# Altium schematic symbol library Capasitor.SchLib: 60 symbols
Pins are listed as number, name and electrical type; pins without a type are passive.

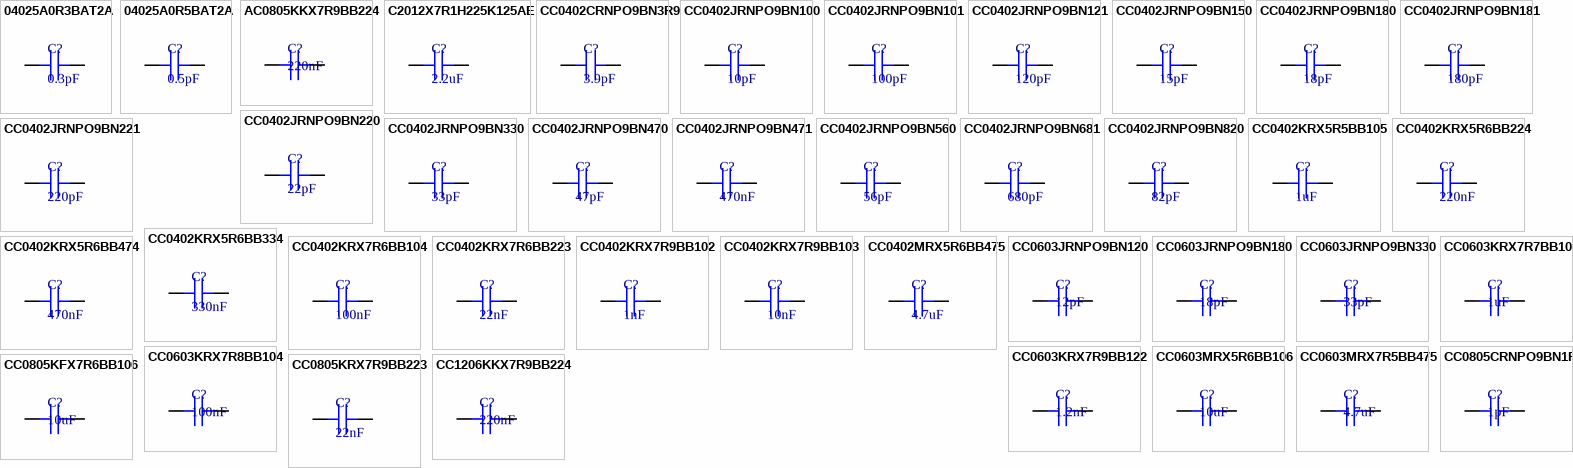
[diagram p0: symbols 04025A0R3BAT2A to CC1206KKX7R9BB224]

## 04025A0R3BAT2A
designator C?, comment 0.3pF
0.3pF, 50V, C0G, 0402; Manufacturer: Kyocera AVX; Manufacturer Part Number: 04025A0R3BAT2A; Value: 0.3; Dielectric Material: Ceramic; Purpose Of Usage: BASIC; Tolerance: 1%; Supplier 1: Digi-Key; RoHS: YES; Category: CAPASITOR; Case/Package: 0402; Case Code (Imperial): 0402; Case Code (Metric): 1005; Min Operating Temperature: -55°C; Max Operating Temperature: 125°C; Voltage Rating: 50V; Dielectric: C0G; Voltage Rating (DC): 50V; Supplier Part Number 1: 04025A0R3BAT2A-ND; Height: 0.5mm; Local Supplier: GENERAL; Mount: SMD; Price 10K: 0.00250; Stock ID: ??; Sub-Category: CERAMIC
footprint C0402 (Chip Capacitor, 2-Leads, Body 1.00x0.50mm, IPC Medium Density)
pins: 1, 2

## 04025A0R5BAT2A
designator C?, comment 0.5pF
0.5pF, 50V, C0G, 0402; Manufacturer: Kyocera AVX; Manufacturer Part Number: 04025A0R5BAT2A; Value: 0.5; Temperature Coefficient: 0ppm/°C; Dielectric Material: Ceramic; Tolerance: 1%; Purpose Of Usage: BASIC; Supplier 1: Digi-Key; RoHS: YES; Category: CAPASITOR; Mount: SMD; Case/Package: 0402; Case Code (Metric): 1005; Case Code (Imperial): 0402; Min Operating Temperature: -55°C; Max Operating Temperature: 125°C; Voltage Rating: 50V; Voltage Rating (DC): 50V; Dielectric: C0G; Height: 0.56mm; Supplier Part Number 1: 478-3656-1-ND; Sub-Category: CERAMIC; Stock ID: ??; Local Supplier: GENERAL; Price 10K: 0.00250
footprint C0402 (Chip Capacitor, 2-Leads, Body 1.00x0.50mm, IPC Medium Density)
pins: 1, 2

## AC0805KKX7R9BB224
designator C?, comment 220nF
220nF, 50V, X7R, 0805; Manufacturer: Yageo; Manufacturer Part Number: AC0805KKX7R9BB224; Value: 220000; Dielectric Material: Ceramic; Tolerance: 10%; Purpose Of Usage: BASIC; Supplier 1: Digi-Key; RoHS: YES; Supplier Part Number 1: 311-3153-1-ND; Category: CAPASITOR; Sub-Category: CERAMIC; Case/Package: 0805; Case Code (Imperial): 0805; Case Code (Metric): 2012; Dielectric: X7R; Max Operating Temperature: 125°C; Min Operating Temperature: -55°C; Mount: SMD; Stock ID: ??; Voltage Rating (DC): 50V; Voltage Rating: 50V; Local Supplier: GENERAL; Price 10K: 0.00250
footprint C0805
pins: 1, 2

## C2012X7R1H225K125AE
designator C?, comment 2.2uF
2.2uF, 50V, X7R, 0805; Manufacturer: TDK; Manufacturer Part Number: C2012X7R1H225K125AE; Value: 2200000; Tolerance: 10%; Dielectric Material: Ceramic; Purpose Of Usage: BASIC; Supplier 1: Digi-Key; Supplier Part Number 1: 445-172487-1-ND; RoHS: YES; Mount: SMD; Case/Package: 0805; Case Code (Metric): 2012; Case Code (Imperial): 0805; Min Operating Temperature: -55°C; Max Operating Temperature: 125°C; Voltage Rating: 50V; Dielectric: X7R; Voltage Rating (DC): 50V; Height: 1.25mm; Category: CAPASITOR; Sub-Category: CERAMIC; Stock ID: ??; Local Supplier: GENERAL; Price 10K: 0.00250
footprint C0805
pins: 1, 2

## CC0402CRNPO9BN3R9
designator C?, comment 3.9pF
3.9pF, 50V, C0G, 0402; Manufacturer: Yageo; Manufacturer Part Number: CC0402CRNPO9BN3R9; Value: 3.9; Dielectric Material: Ceramic; Tolerance: 1%; Purpose Of Usage: BASIC; Supplier 1: Digi-Key; RoHS: YES; Category: CAPASITOR; Mount: SMD; Case/Package: 0402; Case Code (Imperial): 0402; Case Code (Metric): 1005; Min Operating Temperature: -55°C; Max Operating Temperature: 125°C; Dielectric: C0G; Voltage Rating (DC): 50V; Voltage Rating: 50V; Supplier Part Number 1: 311-3325-1-ND; Sub-Category: CERAMIC; Stock ID: ??; Local Supplier: GENERAL; Price 10K: 0.00250
footprint C0402 (Chip Capacitor, 2-Leads, Body 1.00x0.50mm, IPC Medium Density)
pins: 1, 2

## CC0402JRNPO9BN100
designator C?, comment 10pF
10pF, 50V, NP0, 0402; Manufacturer: Yageo; Manufacturer Part Number: CC0402JRNPO9BN100; Dielectric Material: Ceramic; Value: 10; Tolerance: 5%; Dielectric: C0G; Temperature Coefficient: 30ppm/°C; Purpose Of Usage: BASIC; Supplier 1: Digi-Key; RoHS: YES; Category: CAPASITOR; Case/Package: 0402; Case Code (Metric): 1005; Case Code (Imperial): 0402; Min Operating Temperature: -55°C; Max Operating Temperature: 125°C; Voltage Rating: 50V; Voltage Rating (DC): 50V; Height: 0.5mm; Supplier Part Number 1: 311-1014-2-ND; Mount: SMD; Stock ID: ??; Sub-Category: CERAMIC; Local Supplier: GENERAL; Price 10K: 0.00250
footprint C0402 (Chip Capacitor, 2-Leads, Body 1.00x0.50mm, IPC Medium Density)
pins: 1, 2

## CC0402JRNPO9BN101
designator C?, comment 100pF
100pF, 50V, NP0, 0402; Manufacturer: Yageo; Manufacturer Part Number: CC0402JRNPO9BN101; Dielectric Material: Ceramic; Value: 100; Tolerance: 5%; Dielectric: C0G; Temperature Coefficient: 30ppm/°C; Purpose Of Usage: BASIC; Supplier 1: Digi-Key; RoHS: YES; Category: CAPASITOR; Case/Package: 0402; Case Code (Imperial): 0402; Case Code (Metric): 1005; Min Operating Temperature: -55°C; Max Operating Temperature: 125°C; Voltage Rating: 50V; Voltage Rating (DC): 50V; Height: 0.5mm; Supplier Part Number 1: 311-1024-2-ND; Sub-Category: CERAMIC; Mount: SMD; Local Supplier: GENERAL; Price 10K: 0.00250; Stock ID: ??
footprint C0402 (Chip Capacitor, 2-Leads, Body 1.00x0.50mm, IPC Medium Density)
pins: 1, 2

## CC0402JRNPO9BN121
designator C?, comment 120pF
120pF, 50V, NP0, 0402; Manufacturer: Yageo; Manufacturer Part Number: CC0402JRNPO9BN121; Tolerance: 5%; Value: 120; Dielectric: C0G; Dielectric Material: Ceramic; Purpose Of Usage: BASIC; Supplier 1: Digi-Key; RoHS: YES; Category: CAPASITOR; Mount: SMD; Case/Package: 0402; Case Code (Imperial): 0402; Case Code (Metric): 1005; Min Operating Temperature: -55°C; Max Operating Temperature: 125°C; Voltage Rating: 50V; Voltage Rating (DC): 50V; Height: 0.5mm; Supplier Part Number 1: 311-3337-1-ND; Sub-Category: CERAMIC; Stock ID: ??; Local Supplier: GENERAL; Price 10K: 0.00250
footprint C0402 (Chip Capacitor, 2-Leads, Body 1.00x0.50mm, IPC Medium Density)
pins: 1, 2

## CC0402JRNPO9BN150
designator C?, comment 15pF
15pF, 50V, NP0, 0402; Manufacturer: Yageo; Manufacturer Part Number: CC0402JRNPO9BN150; Dielectric Material: Ceramic; Value: 15; Tolerance: 5%; Dielectric: C0G; Purpose Of Usage: BASIC; Supplier 1: Digi-Key; RoHS: YES; Category: CAPASITOR; Mount: SMD; Case/Package: 0402; Case Code (Metric): 1005; Case Code (Imperial): 0402; Min Operating Temperature: -55°C; Max Operating Temperature: 125°C; Voltage Rating: 50V; Voltage Rating (DC): 50V; Height: 0.5mm; Supplier Part Number 1: 311-1017-1-ND; Sub-Category: CERAMIC; Stock ID: ??; Local Supplier: GENERAL; Price 10K: 0.00250
footprint C0402 (Chip Capacitor, 2-Leads, Body 1.00x0.50mm, IPC Medium Density)
pins: 1, 2

## CC0402JRNPO9BN180
designator C?, comment 18pF
18pF, 50V, C0G, 0402; Manufacturer: Yageo; Manufacturer Part Number: CC0402JRNPO9BN180; Value: 18; Tolerance: 5%; Temperature Coefficient: 30ppm/°C; Dielectric Material: Ceramic; Purpose Of Usage: BASIC; Supplier 1: Digi-Key; RoHS: YES; Category: CAPASITOR; Mount: SMD; Case/Package: 0402; Case Code (Metric): 1005; Case Code (Imperial): 0402; Min Operating Temperature: -55°C; Max Operating Temperature: 125°C; Voltage Rating: 50V; Voltage Rating (DC): 50V; Dielectric: C0G; Height: 0.5mm; Supplier Part Number 1: 311-1415-1-ND; Sub-Category: CERAMIC; Stock ID: ??; Local Supplier: GENERAL; Price 10K: 0.00250
footprint C0402 (Chip Capacitor, 2-Leads, Body 1.00x0.50mm, IPC Medium Density)
pins: 1, 2

## CC0402JRNPO9BN181
designator C?, comment 180pF
Cap Ceramic 180pF 50V C0G 5% SMD 0402 125C T/R; Manufacturer: Yageo; Manufacturer Part Number: CC0402JRNPO9BN181; Value: 180; Purpose Of Usage: BASIC; Supplier 1: Digi-Key; RoHS: YES; Category: CAPASITOR; Case/Package: 0402; Case Code (Imperial): 0402; Case Code (Metric): 1005; Min Operating Temperature: -55°C; Max Operating Temperature: 125°C; Voltage Rating: 50V; Voltage Rating (DC): 50V; Tolerance: 5%; Dielectric: C0G; Supplier Part Number 1: 311-1663-2-ND; Dielectric Material: Ceramic; Height: 0.5mm; Sub-Category: CERAMIC; Local Supplier: GENERAL; Price 10K: 0.00250; Mount: SMD; Stock ID: ??
footprint C0402 (Chip Capacitor, 2-Leads, Body 1.00x0.50mm, IPC Medium Density)
pins: 1, 2

## CC0402JRNPO9BN220
designator C?, comment 22pF
22pF, 50V, NP0, 0402; Manufacturer: Yageo; Manufacturer Part Number: CC0402JRNPO9BN220; Dielectric Material: Ceramic; Value: 22; Tolerance: 5%; Dielectric: C0G; Temperature Coefficient: 30ppm/°C; Purpose Of Usage: BASIC; Supplier 1: Digi-Key; RoHS: YES; Category: CAPASITOR; Case/Package: 0402; Case Code (Metric): 1005; Case Code (Imperial): 0402; Min Operating Temperature: -55°C; Max Operating Temperature: 125°C; Voltage Rating: 50V; Voltage Rating (DC): 50V; Height: 0.5mm; Supplier Part Number 1: 311-1018-2-ND; Mount: SMD; Sub-Category: CERAMIC; Stock ID: ??; Local Supplier: GENERAL; Price 10K: 0.00250
footprint C0402 (Chip Capacitor, 2-Leads, Body 1.00x0.50mm, IPC Medium Density)
pins: 1, 2

## CC0402JRNPO9BN221
designator C?, comment 220pF
220pF, 50V, NP0, 0402; Manufacturer: Yageo; Manufacturer Part Number: CC0402JRNPO9BN221; Dielectric Material: Ceramic; Value: 220; Tolerance: 10%; Dielectric: C0G; Temperature Coefficient: 30ppm/°C; Purpose Of Usage: BASIC; Supplier 1: Digi-Key; RoHS: YES; Category: CAPASITOR; Mount: SMD; Case/Package: 0402; Case Code (Metric): 1005; Case Code (Imperial): 0402; Min Operating Temperature: -55°C; Max Operating Temperature: 125°C; Voltage Rating: 50V; Height: 0.5mm; Supplier Part Number 1: 311-1416-1-ND; Sub-Category: CERAMIC; Stock ID: ??; Voltage Rating (DC): 50V; Local Supplier: GENERAL; Price 10K: 0.00250
footprint C0402 (Chip Capacitor, 2-Leads, Body 1.00x0.50mm, IPC Medium Density)
pins: 1, 2

## CC0402JRNPO9BN330
designator C?, comment 33pF
33pF, 50V, NP0, 0402; Manufacturer: Yageo; Manufacturer Part Number: CC0402JRNPO9BN330; Dielectric Material: Ceramic; Value: 33; Tolerance: 5%; Dielectric: C0G; Purpose Of Usage: BASIC; Supplier 1: Digi-Key; RoHS: YES; Category: CAPASITOR; Mount: SMD; Case/Package: 0402; Case Code (Imperial): 0402; Case Code (Metric): 1005; Min Operating Temperature: -55°C; Max Operating Temperature: 125°C; Voltage Rating: 50V; Voltage Rating (DC): 50V; Height: 0.5mm; Supplier Part Number 1: 311-1020-1-ND; Sub-Category: CERAMIC; Stock ID: ??; Local Supplier: GENERAL; Price 10K: 0.00250
footprint C0402 (Chip Capacitor, 2-Leads, Body 1.00x0.50mm, IPC Medium Density)
pins: 1, 2

## CC0402JRNPO9BN470
designator C?, comment 47pF
47pF, 50V, NP0, 0402; Manufacturer: Yageo; Manufacturer Part Number: CC0402JRNPO9BN470; Dielectric Material: Ceramic; Value: 47; Tolerance: 5%; Dielectric: C0G; Purpose Of Usage: BASIC; Supplier 1: Digi-Key; RoHS: YES; Category: CAPASITOR; Case/Package: 0402; Case Code (Metric): 1005; Case Code (Imperial): 0402; Min Operating Temperature: -55°C; Max Operating Temperature: 125°C; Voltage Rating: 50V; Voltage Rating (DC): 50V; Height: 0.5mm; Supplier Part Number 1: 311-1021-2-ND; Mount: SMD; Sub-Category: CERAMIC; Local Supplier: GENERAL; Price 10K: 0.00250; Stock ID: ??
footprint C0402 (Chip Capacitor, 2-Leads, Body 1.00x0.50mm, IPC Medium Density)
pins: 1, 2

## CC0402JRNPO9BN471
designator C?, comment 470nF
470pF, 50V, NP0, 0402; Manufacturer: Yageo; Manufacturer Part Number: CC0402JRNPO9BN471; Tolerance: 5%; Value: 470; Dielectric: C0G; Dielectric Material: Ceramic; Purpose Of Usage: BASIC; Supplier 1: Digi-Key; RoHS: YES; Category: CAPASITOR; Case/Package: 0402; Case Code (Imperial): 0402; Case Code (Metric): 1005; Min Operating Temperature: -55°C; Max Operating Temperature: 125°C; Voltage Rating (DC): 50V; Voltage Rating: 50V; Supplier Part Number 1: 311-1671-2-ND; Height: 0.5mm; Local Supplier: GENERAL; Mount: SMD; Price 10K: 0.00250; Stock ID: ??; Sub-Category: CERAMIC
footprint C0402 (Chip Capacitor, 2-Leads, Body 1.00x0.50mm, IPC Medium Density)
pins: 1, 2

## CC0402JRNPO9BN560
designator C?, comment 56pF
56pF ,50V ,NP0 ,0402; Manufacturer: Yageo; Manufacturer Part Number: CC0402JRNPO9BN560; Value: 56; Tolerance: 5%; Dielectric: C0G; Dielectric Material: Ceramic; Purpose Of Usage: BASIC; Supplier 1: Digi-Key; RoHS: YES; Category: CAPASITOR; Mount: SMD; Case/Package: 0402; Case Code (Metric): 1005; Case Code (Imperial): 0402; Min Operating Temperature: -55°C; Max Operating Temperature: 125°C; Voltage Rating: 50V; Voltage Rating (DC): 50V; Height: 0.5mm; Supplier Part Number 1: 311-1022-1-ND; Sub-Category: CERAMIC; Stock ID: ??; Local Supplier: GENERAL; Price 10K: 0.00250
footprint C0402 (Chip Capacitor, 2-Leads, Body 1.00x0.50mm, IPC Medium Density)
pins: 1, 2

## CC0402JRNPO9BN681
designator C?, comment 680pF
680pF, 50V, C0G/NP0, 0402; Manufacturer: Yageo; Manufacturer Part Number: CC0402JRNPO9BN681; Value: 680; Tolerance: 5%; Dielectric: C0G; Dielectric Material: Ceramic; Purpose Of Usage: BASIC; Supplier 1: Digi-Key; RoHS: YES; Category: CAPASITOR; Case/Package: 0402; Case Code (Metric): 1005; Case Code (Imperial): 0402; Min Operating Temperature: -55°C; Max Operating Temperature: 125°C; Voltage Rating: 50V; Voltage Rating (DC): 50V; Supplier Part Number 1: 311-1675-2-ND; Height: 0.5mm; Mount: SMD; Sub-Category: CERAMIC; Local Supplier: GENERAL; Price 10K: 0.00250; Stock ID: ??
footprint C0402 (Chip Capacitor, 2-Leads, Body 1.00x0.50mm, IPC Medium Density)
pins: 1, 2

## CC0402JRNPO9BN820
designator C?, comment 82pF
82pF, 50V, C0G, 0402; Manufacturer: Yageo; Manufacturer Part Number: CC0402JRNPO9BN820; Value: 82; Tolerance: 5%; Dielectric Material: Ceramic; Purpose Of Usage: BASIC; Supplier 1: Digi-Key; RoHS: YES; Category: CAPASITOR; Mount: SMD; Case/Package: 0402; Case Code (Metric): 1005; Case Code (Imperial): 0402; Min Operating Temperature: -55°C; Max Operating Temperature: 125°C; Voltage Rating: 50V; Voltage Rating (DC): 50V; Dielectric: C0G; Height: 0.5mm; Supplier Part Number 1: 311-1023-1-ND; Sub-Category: CERAMIC; Stock ID: ??; Local Supplier: GENERAL; Price 10K: 0.00250
footprint C0402 (Chip Capacitor, 2-Leads, Body 1.00x0.50mm, IPC Medium Density)
pins: 1, 2

## CC0402KRX5R5BB105
designator C?, comment 1uF
1uF, 6.3V, X5R, 0402; Manufacturer: Yageo; Manufacturer Part Number: CC0402KRX5R5BB105; Dielectric Material: Ceramic; Value: 1000000; Tolerance: 10%; Purpose Of Usage: BASIC; Supplier 1: Digi-Key; RoHS: YES; Category: CAPASITOR; Mount: SMD; Case/Package: 0402; Case Code (Metric): 1005; Case Code (Imperial): 0402; Min Operating Temperature: -55°C; Max Operating Temperature: 85°C; Voltage Rating: 6.3V; Voltage Rating (DC): 6.3V; Dielectric: X5R; Height: 0.5mm; Supplier Part Number 1: 311-1438-1-ND; Sub-Category: CERAMIC; Stock ID: ??; Local Supplier: GENERAL; Price 10K: 0.00250
footprint C0402 (Chip Capacitor, 2-Leads, Body 1.00x0.50mm, IPC Medium Density)
pins: 1, 2

## CC0402KRX5R6BB224
designator C?, comment 220nF
220nF, 10V, X5R, 0402; Manufacturer: Yageo; Manufacturer Part Number: CC0402KRX5R6BB224; Dielectric Material: Ceramic; Value: 220000; Tolerance: 10%; Purpose Of Usage: BASIC; Supplier 1: Digi-Key; RoHS: YES; Category: CAPASITOR; Mount: SMD; Case/Package: 0402; Case Code (Metric): 1005; Case Code (Imperial): 0402; Min Operating Temperature: -55°C; Max Operating Temperature: 85°C; Voltage Rating: 10V; Voltage Rating (DC): 10V; Dielectric: X5R; Height: 0.5mm; Supplier Part Number 1: 311-1421-1-ND; Sub-Category: CERAMIC; Stock ID: ??; Local Supplier: GENERAL; Price 10K: 0.00250
footprint C0402 (Chip Capacitor, 2-Leads, Body 1.00x0.50mm, IPC Medium Density)
pins: 1, 2

## CC0402KRX5R6BB334
designator C?, comment 330nF
330nF, 10V, X5R, 0402; Manufacturer: Yageo; Manufacturer Part Number: CC0402KRX5R6BB334; Tolerance: 10%; Value: 330000; Dielectric Material: Ceramic; Purpose Of Usage: BASIC; Supplier 1: Digi-Key; RoHS: YES; Category: CAPASITOR; Mount: SMD; Case/Package: 0402; Case Code (Metric): 1005; Case Code (Imperial): 0402; Min Operating Temperature: -55°C; Max Operating Temperature: 85°C; Voltage Rating: 10V; Dielectric: X5R; Voltage Rating (DC): 10V; Supplier Part Number 1: 311-1687-1-ND; Sub-Category: CERAMIC; Stock ID: ??; Local Supplier: GENERAL; Price 10K: 0.00250
footprint C0402 (Chip Capacitor, 2-Leads, Body 1.00x0.50mm, IPC Medium Density)
pins: 1, 2

## CC0402KRX5R6BB474
designator C?, comment 470nF
470nF, 10V, X5R, 0402; Manufacturer: Yageo; Manufacturer Part Number: CC0402KRX5R6BB474; Tolerance: 10%; Value: 470000; Dielectric Material: Ceramic; Purpose Of Usage: BASIC; Supplier 1: Digi-Key; RoHS: YES; Category: CAPASITOR; Mount: SMD; Case/Package: 0402; Case Code (Imperial): 0402; Case Code (Metric): 1005; Min Operating Temperature: -55°C; Max Operating Temperature: 85°C; Voltage Rating (DC): 10V; Voltage Rating: 10V; Dielectric: X5R; Height: 0.5mm; Supplier Part Number 1: 311-1689-1-ND; Sub-Category: CERAMIC; Stock ID: ??; Local Supplier: GENERAL; Price 10K: 0.00250
footprint C0402 (Chip Capacitor, 2-Leads, Body 1.00x0.50mm, IPC Medium Density)
pins: 1, 2

## CC0402KRX7R6BB104
designator C?, comment 100nF
100nF ,10V ,X7R ,0402; Manufacturer: Yageo; Manufacturer Part Number: CC0402KRX7R6BB104; Value: 100000; Tolerance: 10%; Dielectric Material: Ceramic; Purpose Of Usage: BASIC; Supplier 1: Digi-Key; RoHS: YES; Category: CAPASITOR; Mount: SMD; Case/Package: 0402; Case Code (Imperial): 0402; Case Code (Metric): 1005; Min Operating Temperature: -55°C; Max Operating Temperature: 125°C; Voltage Rating: 10V; Voltage Rating (DC): 10V; Dielectric: X7R; Height: 0.5mm; Supplier Part Number 1: 311-1345-1-ND; Sub-Category: CERAMIC; Stock ID: ??; Local Supplier: GENERAL; Price 10K: 0.00250
footprint C0402 (Chip Capacitor, 2-Leads, Body 1.00x0.50mm, IPC Medium Density)
pins: 1, 2

## CC0402KRX7R6BB223
designator C?, comment 22nF
22nF, 10V, X7R, 0402; Manufacturer: Yageo; Manufacturer Part Number: CC0402KRX7R6BB223; Value: 22; Tolerance: 10%; Dielectric Material: Ceramic; Purpose Of Usage: BASIC; Supplier 1: Digi-Key; RoHS: Yes; Category: CAPASITOR; Case/Package: 0402; Case Code (Imperial): 0402; Case Code (Metric): 1005; Min Operating Temperature: -55°C; Max Operating Temperature: 125°C; Voltage Rating (DC): 10V; Dielectric: X7R; Voltage Rating: 10V; Supplier Part Number 1: 311-3793-2-ND; Height: 0.5mm; Local Supplier: GENERAL; Price 10K: 0.00250; Sub-Category: CERAMIC; Stock ID: ??
footprint C0402 (Chip Capacitor, 2-Leads, Body 1.00x0.50mm, IPC Medium Density)
pins: 1, 2

## CC0402KRX7R9BB102
designator C?, comment 1nF
1nF, 50V, X7R, 0402; Manufacturer: Yageo; Manufacturer Part Number: CC0402KRX7R9BB102; Dielectric Material: Ceramic; Value: 1000; Tolerance: 10%; Purpose Of Usage: BASIC; Supplier 1: Digi-Key; RoHS: YES; Category: CAPASITOR; Mount: SMD; Case/Package: 0402; Case Code (Metric): 1005; Case Code (Imperial): 0402; Min Operating Temperature: -55°C; Max Operating Temperature: 125°C; Voltage Rating: 50V; Supplier Part Number 1: 311-1036-1-ND; Sub-Category: CERAMIC; Dielectric: X7R; Stock ID: ??; Voltage Rating (DC): 50V; Local Supplier: GENERAL; Price 10K: 0.00250
footprint C0402 (Chip Capacitor, 2-Leads, Body 1.00x0.50mm, IPC Medium Density)
pins: 1, 2

## CC0402KRX7R9BB103
designator C?, comment 10nF
10nF, 50V, X7R, 0402; Manufacturer: Yageo; Manufacturer Part Number: CC0402KRX7R9BB103; Tolerance: 10%; Value: 10000; Dielectric Material: Ceramic; Purpose Of Usage: BASIC; Supplier 1: Digi-Key; RoHS: YES; Category: CAPASITOR; Mount: SMD; Case/Package: 0402; Case Code (Imperial): 0402; Case Code (Metric): 1005; Min Operating Temperature: -55°C; Max Operating Temperature: 125°C; Voltage Rating: 50V; Voltage Rating (DC): 50V; Dielectric: X7R; Height: 0.5mm; Supplier Part Number 1: 311-1349-1-ND; Sub-Category: CERAMIC; Stock ID: ??; Local Supplier: GENERAL; Price 10K: 0.00250
footprint C0402 (Chip Capacitor, 2-Leads, Body 1.00x0.50mm, IPC Medium Density)
pins: 1, 2

## CC0402MRX5R6BB475
designator C?, comment 4.7uF
4.7uF, 10V, X5R, 0402; Manufacturer: Yageo; Manufacturer Part Number: CC0402MRX5R6BB475; Value: 4700000; Tolerance: 20%; Dielectric Material: Ceramic; Purpose Of Usage: BASIC; Supplier 1: Digi-Key; RoHS: YES; Category: CAPASITOR; Mount: SMD; Case/Package: 0402; Case Code (Metric): 1005; Case Code (Imperial): 0402; Min Operating Temperature: -55°C; Max Operating Temperature: 85°C; Voltage Rating: 10V; Dielectric: X5R; Voltage Rating (DC): 10V; Height: 0.5mm; Supplier Part Number 1: 311-1734-1-ND; Sub-Category: CERAMIC; Stock ID: ??; Local Supplier: GENERAL; Price 10K: 0.00250
footprint C0402 (Chip Capacitor, 2-Leads, Body 1.00x0.50mm, IPC Medium Density)
pins: 1, 2

## CC0603JRNPO9BN120
designator C?, comment 12pF
12pF ,50V ,C0G ,0603; Manufacturer: Yageo; Manufacturer Part Number: CC0603JRNPO9BN120; Dielectric Material: Ceramic; Value: 12; Tolerance: 5%; Purpose Of Usage: BASIC; Supplier 1: Digi-Key; Supplier Part Number 1: 311-1059-1-ND; RoHS: YES; Mount: SMD; Case/Package: 0603; Case Code (Metric): 1608; Case Code (Imperial): 0603; Min Operating Temperature: -55°C; Max Operating Temperature: 125°C; Voltage Rating (DC): 50V; Dielectric: C0G; Voltage Rating: 50V; Height: 0.8mm; Category: CAPASITOR; Sub-Category: CERAMIC; Stock ID: ??; Local Supplier: GENERAL; Price 10K: 0.00250
footprint C0603
pins: 1, 2

## CC0603JRNPO9BN180
designator C?, comment 18pF
18pF ,50V ,C0G/ NP0 ,0603; Manufacturer: Yageo; Manufacturer Part Number: CC0603JRNPO9BN180; Value: 18; Tolerance: 5%; Dielectric: C0G; Temperature Coefficient: 30ppm/°C; Dielectric Material: Ceramic; Purpose Of Usage: BASIC; Supplier 1: Digi-Key; Supplier Part Number 1: 311-1061-1-ND; RoHS: YES; Mount: SMD; Case/Package: 0603; Case Code (Metric): 1608; Case Code (Imperial): 0603; Min Operating Temperature: -55°C; Max Operating Temperature: 125°C; Voltage Rating: 50V; Voltage Rating (DC): 50V; Height: 0.8mm; Category: CAPASITOR; Sub-Category: CERAMIC; Stock ID: ??; Local Supplier: GENERAL; Price 10K: 0.00250
footprint C0603
pins: 1, 2

## CC0603JRNPO9BN330
designator C?, comment 33pF
33pF ,50V ,NP0 ,0603; Manufacturer: Yageo; Manufacturer Part Number: CC0603JRNPO9BN330; Dielectric Material: Ceramic; Value: 33; Tolerance: 5%; Dielectric: C0G; Temperature Coefficient: 30ppm/°C; Purpose Of Usage: BASIC; Supplier 1: Digi-Key; Supplier Part Number 1: 311-1064-1-ND; RoHS: YES; Mount: SMD; Case/Package: 0603; Case Code (Metric): 1608; Case Code (Imperial): 0603; Min Operating Temperature: -55°C; Max Operating Temperature: 125°C; Voltage Rating: 50V; Voltage Rating (DC): 50V; Height: 0.8mm; Category: CAPASITOR; Sub-Category: CERAMIC; Stock ID: ??; Local Supplier: GENERAL; Price 10K: 0.00250
footprint C0603
pins: 1, 2

## CC0603KRX7R7BB105
designator C?, comment 1uF
1uF, 6V, X7R, 0603; Manufacturer: Yageo; Manufacturer Part Number: CC0603KRX7R7BB105; Value: 1000000; Tolerance: 10%; Voltage Rating: 16V; Dielectric Material: Ceramic; Purpose Of Usage: BASIC; Supplier 1: Digi-Key; Supplier Part Number 1: 311-1446-1-ND; RoHS: YES; Mount: SMD; Case/Package: 0603; Case Code (Metric): 1608; Case Code (Imperial): 0603; Min Operating Temperature: -55°C; Max Operating Temperature: 125°C; Voltage Rating (DC): 16V; Dielectric: X7R; Height: 0.8mm; Sub-Category: CERAMIC; Category: CAPASITOR; Stock ID: ??; Local Supplier: GENERAL; Price 10K: 0.00250
footprint C0603
pins: 1, 2

## CC0603KRX7R8BB104
designator C?, comment 100nF
100nF, 25V, X7R, 0603; Manufacturer: Yageo; Manufacturer Part Number: CC0603KRX7R8BB104; Value: 100000; Tolerance: 10%; Dielectric Material: Ceramic; Purpose Of Usage: BASIC; Supplier 1: Digi-Key; Supplier Part Number 1: 311-1341-1-ND; RoHS: YES; Mount: SMD; Case/Package: 0603; Case Code (Imperial): 0603; Case Code (Metric): 1608; Min Operating Temperature: -55°C; Max Operating Temperature: 125°C; Voltage Rating: 25V; Voltage Rating (DC): 25V; Dielectric: X7R; Height: 0.8mm; Category: CAPASITOR; Sub-Category: CERAMIC; Stock ID: ??; Local Supplier: GENERAL; Price 10K: 0.00250
footprint C0603
pins: 1, 2

## CC0603KRX7R9BB122
designator C?, comment 1.2nF
1.2nF, 50V, X7R, 0603; Manufacturer: Yageo; Manufacturer Part Number: CC0603KRX7R9BB122; Dielectric Material: Ceramic; Tolerance: 10%; Value: 1200; Purpose Of Usage: BASIC; Supplier 1: Digi-Key; Supplier Part Number 1: 311-1806-1-ND; RoHS: YES; Mount: SMD; Case/Package: 0603; Case Code (Metric): 1608; Case Code (Imperial): 0603; Min Operating Temperature: -55°C; Max Operating Temperature: 125°C; Voltage Rating: 50V; Voltage Rating (DC): 50V; Dielectric: X7R; Height: 0.8mm; Category: CAPASITOR; Sub-Category: CERAMIC; Stock ID: ??; Local Supplier: GENERAL; Price 10K: 0.00250
footprint C0603
pins: 1, 2

## CC0603MRX5R6BB106
designator C?, comment 10uF
10uF ,10V ,X5R ,0603; Manufacturer: Yageo; Manufacturer Part Number: CC0603MRX5R6BB106; Tolerance: 20%; Value: 10000000; Dielectric Material: Ceramic; Purpose Of Usage: BASIC; Supplier 1: Digi-Key; Supplier Part Number 1: 311-1817-1-ND; RoHS: YES; Mount: SMD; Case/Package: 0603; Case Code (Imperial): 0603; Case Code (Metric): 1608; Min Operating Temperature: -55°C; Max Operating Temperature: 85°C; Voltage Rating: 10V; Dielectric: X5R; Voltage Rating (DC): 10V; Category: CAPASITOR; Sub-Category: CERAMIC; Stock ID: ??; Local Supplier: GENERAL; Price 10K: 0.00250
footprint C0603
pins: 1, 2

## CC0603MRX7R5BB475
designator C?, comment 4.7uF
4.7uF, 6.3V, X7R, 0603; Manufacturer: Yageo; Manufacturer Part Number: CC0603MRX7R5BB475; Value: 4700000; Tolerance: 20%; Dielectric Material: Ceramic; Purpose Of Usage: BASIC; Supplier 1: Digi-Key; Supplier Part Number 1: 311-3496-6-ND; RoHS: YES; Mount: SMD; Case/Package: 0603; Case Code (Imperial): 0603; Case Code (Metric): 1608; Min Operating Temperature: -55°C; Max Operating Temperature: 125°C; Voltage Rating: 6.3V; Category: CAPASITOR; Sub-Category: CERAMIC; Dielectric: X7R; Stock ID: ??; Voltage Rating (DC): 6.3V; Local Supplier: GENERAL; Price 10K: 0.00250
footprint C0603
pins: 1, 2

## CC0805CRNPO9BN1R0
designator C?, comment 1pF
1pF, 50V, C0G, 0805; Manufacturer: Yageo; Manufacturer Part Number: CC0805CRNPO9BN1R0; Value: 1; Tolerance: 25%; Dielectric Material: Ceramic; Purpose Of Usage: BASIC; Supplier 1: Digi-Key; RoHS: YES; Mount: SMD; Case/Package: 0805; Case Code (Metric): 2012; Case Code (Imperial): 0805; Min Operating Temperature: -55°C; Max Operating Temperature: 125°C; Voltage Rating: 50V; Voltage Rating (DC): 50V; Dielectric: C0G; Height: 0.6mm; Supplier Part Number 1: 311-1089-1-ND; Category: CAPASITOR; Sub-Category: CERAMIC; Stock ID: ??; Local Supplier: GENERAL; Price 10K: 0.00250
footprint C0805
pins: 1, 2

## CC0805KFX7R6BB106
designator C?, comment 10uF
10uF ,10V ,X7R ,0805; Manufacturer: Yageo; Manufacturer Part Number: CC0805KFX7R6BB106; Value: 10000000; Dielectric Material: Ceramic; Tolerance: 10%; Purpose Of Usage: BASIC; Supplier 1: Digi-Key; RoHS: YES; Supplier Part Number 1: 13-CC0805KFX7R6BB106CT-ND; Category: CAPASITOR; Sub-Category: CERAMIC; Case/Package: 0805; Case Code (Imperial): 0805; Case Code (Metric): 2012; Dielectric: X7R; Max Operating Temperature: 125°C; Min Operating Temperature: -55°C; Mount: SMD; Stock ID: ??; Voltage Rating (DC): 10V; Voltage Rating: 10V; Local Supplier: GENERAL; Price 10K: 0.00250
footprint C0805
pins: 1, 2

## CC0805KRX7R9BB223
designator C?, comment 22nF
22nF, 50 V, X7R, 0805; Manufacturer: Yageo; Manufacturer Part Number: CC0805KRX7R9BB223; Dielectric Material: Ceramic; Value: 22000; Tolerance: 10%; Voltage Rating: 50V; Purpose Of Usage: BASIC; Supplier 1: Digi-Key; RoHS: YES; Category: CAPASITOR; Case/Package: 0805; Case Code (Metric): 2012; Case Code (Imperial): 0805; Min Operating Temperature: -55°C; Max Operating Temperature: 125°C; Voltage Rating (DC): 50V; Dielectric: X7R; Height: 0.6mm; Supplier Part Number 1: 311-1138-2-ND; Local Supplier: GENERAL; Mount: SMD; Price 10K: 0.00250; Sub-Category: CERAMIC; Stock ID: ??
footprint C0805
pins: 1, 2

## CC1206KKX7R9BB224
designator C?, comment 220nF
220nF 50V X7R 1206; Manufacturer: Yageo; Manufacturer Part Number: CC1206KKX7R9BB224; Dielectric Material: Ceramic; Tolerance: 10%; Value: 220000; Purpose Of Usage: BASIC; Supplier 1: Digi-Key; RoHS: YES; Mount: SMD; Case/Package: 1206; Case Code (Imperial): 1206; Case Code (Metric): 3216; Min Operating Temperature: -55°C; Max Operating Temperature: 125°C; Voltage Rating: 50V; Voltage Rating (DC): 50V; Dielectric: X7R; Height: 1.15mm; Supplier Part Number 1: 311-1434-6-ND; Category: CAPASITOR; Sub-Category: CERAMIC; Stock ID: ??; Local Supplier: GENERAL; Price 10K: 0.00250
footprint c1206
pins: 1, 2

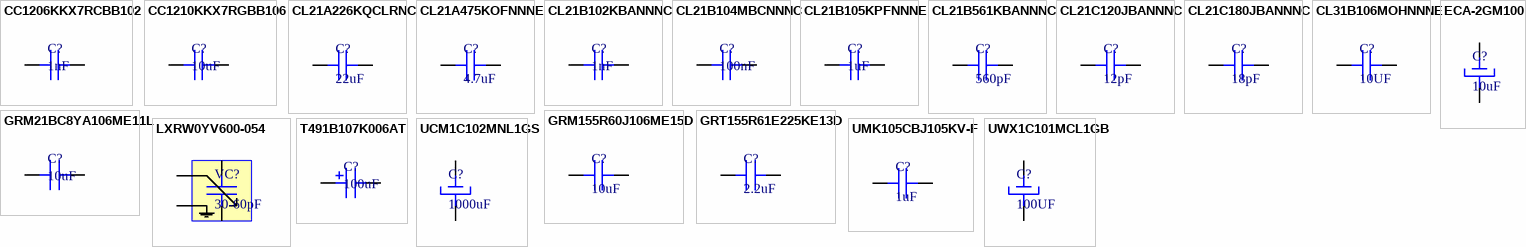
[diagram p1: symbols CC1206KKX7RCBB102 to UWX1C101MCL1GB]

## CC1206KKX7RCBB102
designator C?, comment 1nF
1nF, 1KV, X7R, 1206; Manufacturer: Yageo; Manufacturer Part Number: CC1206KKX7RCBB102; Dielectric Material: Ceramic; Value: 1000; Tolerance: 10%; Purpose Of Usage: BASIC; Supplier 1: Digi-Key; Supplier Part Number 1: 311-1144-1-ND; RoHS: YES; Mount: SMD; Case/Package: 1206; Case Code (Imperial): 1206; Case Code (Metric): 3216; Min Operating Temperature: -55°C; Max Operating Temperature: 125°C; Voltage Rating (DC): 1kV; Voltage Rating: 1kV; Dielectric: X7R; Height: 1.15mm; Category: CAPASITOR; Sub-Category: CERAMIC; Stock ID: ??; Local Supplier: GENERAL; Price 10K: 0.00250
footprint C1206 (Chip Capacitor, 2-Leads, Body 3.20x1.60mm, IPC Medium Density)
pins: 1, 2

## CC1210KKX7RGBB106
designator C?, comment 10uF
10uF, 35V, X7R, 1210; Manufacturer: Yageo; Manufacturer Part Number: CC1210KKX7RGBB106; Value: 10000000; Tolerance: 10%; Dielectric Material: Ceramic; Purpose Of Usage: BASIC; Supplier 1: Digi-Key; Supplier Part Number 1: 311-3536-1-ND; RoHS: YES; Mount: SMD; Case/Package: 1210; Case Code (Imperial): 1210; Case Code (Metric): 3225; Min Operating Temperature: -55°C; Max Operating Temperature: 125°C; Voltage Rating: 35V; Category: CAPASITOR; Sub-Category: CERAMIC; Dielectric: X7R; Stock ID: ??; Voltage Rating (DC): 35V; Local Supplier: GENERAL; Price 10K: 0.00250
footprint C1210
pins: 1, 2

## CL21A226KQCLRNC
designator C?, comment 22uF
22uF ,6.3V ,X5R ,0805; Manufacturer: Samsung; Manufacturer Part Number: CL21A226KQCLRNC; Value: 22000000; Tolerance: 10%; Dielectric: X7R; Dielectric Material: Ceramic; Purpose Of Usage: BASIC; Supplier 1: Digi-Key; Supplier Part Number 1: 1276-6687-1-ND; RoHS: YES; Mount: SMD; Case/Package: 0805; Case Code (Metric): 2012; Case Code (Imperial): 0805; Min Operating Temperature: -55°C; Max Operating Temperature: 85°C; Voltage Rating: 6.3V; Category: CAPASITOR; Sub-Category: CERAMIC; Stock ID: ??; Voltage Rating (DC): 6.3V; Local Supplier: GENERAL; Price 10K: 0.00250
footprint C0805
pins: 1, 2

## CL21A475KOFNNNE
designator C?, comment 4.7uF
4.7uF, 16V, X5R, 0805; Manufacturer: Samsung; Manufacturer Part Number: CL21A475KOFNNNE; Tolerance: 10%; Value: 4700000; Dielectric Material: Ceramic; Purpose Of Usage: BASIC; Supplier 1: Digi-Key; Supplier Part Number 1: 1276-1065-1-ND; RoHS: YES; Mount: SMD; Case/Package: 0805; Case Code (Metric): 2012; Case Code (Imperial): 0805; Min Operating Temperature: -55°C; Max Operating Temperature: 85°C; Voltage Rating: 16V; Dielectric: X5R; Height: 1.25mm; Category: CAPASITOR; Sub-Category: CERAMIC; Stock ID: ??; Voltage Rating (DC): 16V; Local Supplier: GENERAL; Price 10K: 0.00250
footprint C0805
pins: 1, 2

## CL21B102KBANNNC
designator C?, comment 1nF
1nF, 50V, X7R, 0805; Manufacturer: Samsung; Manufacturer Part Number: CL21B102KBANNNC; Tolerance: 10%; Value: 1000; Dielectric Material: Ceramic; Purpose Of Usage: BASIC; Supplier 1: Digi-Key; RoHS: YES; Mount: SMD; Case/Package: 0805; Case Code (Metric): 2012; Case Code (Imperial): 0805; Min Operating Temperature: -55°C; Max Operating Temperature: 125°C; Dielectric: X7R; Voltage Rating: 50V; Height: 0.65mm; Supplier Part Number 1: 1276-1020-1-ND; Category: CAPASITOR; Sub-Category: CERAMIC; Stock ID: ??; Voltage Rating (DC): 50V; Local Supplier: GENERAL; Price 10K: 0.00250
footprint C0805
pins: 1, 2

## CL21B104MBCNNNC
designator C?, comment 100nF
100nF, 50V, X7R, 0805; Manufacturer: Samsung; Manufacturer Part Number: CL21B104MBCNNNC; Value: 100000; Tolerance: 20%; Dielectric Material: Ceramic; Purpose Of Usage: BASIC; Supplier 1: Digi-Key; RoHS: YES; Mount: SMD; Case/Package: 0805; Case Code (Imperial): 0805; Case Code (Metric): 2012; Min Operating Temperature: -55°C; Max Operating Temperature: 125°C; Dielectric: X7R; Voltage Rating: 50V; Voltage Rating (DC): 50V; Height: 0.85mm; Supplier Part Number 1: 1276-2450-1-ND; Category: CAPASITOR; Sub-Category: CERAMIC; Stock ID: ??; Local Supplier: GENERAL; Price 10K: 0.00250
footprint C0805
pins: 1, 2

## CL21B105KPFNNNE
designator C?, comment 1uF
1uF, 10V, X7R, 0805; Manufacturer: Samsung; Manufacturer Part Number: CL21B105KPFNNNE; Tolerance: 10%; Value: 1000000; Dielectric Material: Ceramic; Purpose Of Usage: BASIC; Supplier 1: Digi-Key; RoHS: YES; Mount: SMD; Case/Package: 0805; Case Code (Metric): 2012; Case Code (Imperial): 0805; Min Operating Temperature: -55°C; Max Operating Temperature: 125°C; Voltage Rating: 10V; Dielectric: X7R; Height: 1.25mm; Supplier Part Number 1: 1276-1275-6-ND; Category: CAPASITOR; Sub-Category: CERAMIC; Stock ID: ??; Voltage Rating (DC): 10V; Local Supplier: GENERAL; Price 10K: 0.00250
footprint C0805
pins: 1, 2

## CL21B561KBANNNC
designator C?, comment 560pF
560pF, 50V, X7R, 0805; Manufacturer: Samsung; Manufacturer Part Number: CL21B561KBANNNC; Value: 560; Tolerance: 10%; Dielectric Material: Ceramic; Purpose Of Usage: BASIC; Supplier 1: Digi-Key; Supplier Part Number 1: 1276-1798-1-ND; RoHS: YES; Mount: SMD; Case/Package: 0805; Case Code (Metric): 2012; Case Code (Imperial): 0805; Min Operating Temperature: -55°C; Max Operating Temperature: 125°C; Voltage Rating: 50V; Dielectric: X7R; Voltage Rating (DC): 50V; Height: 0.65mm; Category: CAPASITOR; Sub-Category: CERAMIC; Stock ID: ??; Local Supplier: GENERAL; Price 10K: 0.00250
footprint C0805
pins: 1, 2

## CL21C120JBANNNC
designator C?, comment 12pF
12pF ,50V ,C0G ,0805; Manufacturer: Samsung; Manufacturer Part Number: CL21C120JBANNNC; Value: 12; Tolerance: 5%; Temperature Coefficient: 300ppm/°C; Dielectric Material: Ceramic; Purpose Of Usage: BASIC; Supplier 1: Digi-Key; Supplier Part Number 1: 1276-1120-1-ND; RoHS: YES; Mount: SMD; Case/Package: 0805; Case Code (Metric): 2012; Case Code (Imperial): 0805; Min Operating Temperature: -55°C; Max Operating Temperature: 125°C; Voltage Rating: 50V; Dielectric: C0G; Voltage Rating (DC): 50V; Height: 0.65mm; Category: CAPASITOR; Sub-Category: CERAMIC; Stock ID: ??; Local Supplier: GENERAL; Price 10K: 0.00250
footprint C0805
pins: 1, 2

## CL21C180JBANNNC
designator C?, comment 18pF
18pF ,50V ,C0G ,0805; Manufacturer: Samsung; Manufacturer Part Number: CL21C180JBANNNC; Tolerance: 5%; Value: 18; Temperature Coefficient: 300ppm/°C; Dielectric Material: Ceramic; Purpose Of Usage: BASIC; Supplier 1: Digi-Key; Supplier Part Number 1: 1276-1107-1-ND; RoHS: YES; Mount: SMD; Case/Package: 0805; Case Code (Metric): 2012; Case Code (Imperial): 0805; Min Operating Temperature: -55°C; Max Operating Temperature: 125°C; Voltage Rating: 50V; Dielectric: C0G; Height: 0.65mm; Category: CAPASITOR; Sub-Category: CERAMIC; Stock ID: ??; Voltage Rating (DC): 50V; Local Supplier: GENERAL; Price 10K: 0.00250
footprint C0805
pins: 1, 2

## CL31B106MOHNNNE
designator C?, comment 10UF
10UF, 16V, X7R, 1206; Manufacturer: Samsung; Manufacturer Part Number: CL31B106MOHNNNE; Value: 10000000; Tolerance: 20%; Dielectric Material: Ceramic; Purpose Of Usage: BASIC; Supplier 1: Digi-Key; Supplier Part Number 1: 1276-6641-1-ND; RoHS: YES; Mount: SMD; Case/Package: 1206; Case Code (Metric): 3216; Case Code (Imperial): 1206; Min Operating Temperature: -55°C; Max Operating Temperature: 125°C; Dielectric: X7R; Voltage Rating (DC): 16V; Voltage Rating: 16V; Category: CAPASITOR; Sub-Category: CERAMIC; Stock ID: ??; Local Supplier: GENERAL; Price 10K: 0.00250
footprint c1206
pins: 1, 2

## ECA-2GM100
designator C?, comment 10uF
10uF ,400V ,ELC ,5mm THT; Manufacturer: Panasonic; Manufacturer Part Number: ECA-2GM100; Dielectric Material: Aluminium; Value: 10000000; Tolerance: 20%; Dielectric: Polymer; Purpose Of Usage: BASIC; Supplier 1: Mouser; Supplier Part Number 1: 667-ECA-2GM100; RoHS: YES; Mount: THT; Case/Package: Radial; Min Operating Temperature: -25°C; Max Operating Temperature: 85°C; Voltage Rating: 400V; Voltage Rating (DC): 400V; Diameter: 10mm; Height: 20mm; Category: CAPASITOR; Sub-Category: ALUMINUM; Stock ID: ??; Case Code (Imperial): 10.5mm; Local Supplier: GENERAL; Price 10K: 0.00250
footprint E5-10,5
pins: 1, 2

## GRM21BC8YA106ME11L
designator C?, comment 10uF
10uF, 35V, X6S, 0805; Manufacturer: Murata; Manufacturer Part Number: GRM21BC8YA106ME11L; Tolerance: 20%; Value: 10000000; Dielectric Material: Ceramic; Purpose Of Usage: BASIC; Supplier 1: Digi-Key; Supplier Part Number 1: 490-10505-1-ND; RoHS: YES; Mount: SMD; Case/Package: 0805; Case Code (Imperial): 0805; Case Code (Metric): 2012; Min Operating Temperature: -55°C; Max Operating Temperature: 105°C; Voltage Rating: 35V; Voltage Rating (DC): 35V; Dielectric: X6S; Category: CAPASITOR; Sub-Category: CERAMIC; Stock ID: ??; Local Supplier: GENERAL; Price 10K: 0.00250
footprint C0805
pins: 1, 2

## GRM155R60J106ME15D
designator C?, comment 10uF
10uF, 6.3V, X5R, 0402; Manufacturer: Murata; Manufacturer Part Number: GRM155R60J106ME15D; Value: 10000000; Tolerance: 20%; Dielectric Material: Ceramic; Purpose Of Usage: BASIC; Supplier 1: Digi-Key; RoHS: YES; Category: CAPASITOR; Mount: SMD; Case/Package: 0402; Case Code (Metric): 1005; Case Code (Imperial): 0402; Min Operating Temperature: -55°C; Max Operating Temperature: 85°C; Voltage Rating: 6.3V; Voltage Rating (DC): 6.3V; Dielectric: X5R; Supplier Part Number 1: 490-13238-1-ND; Sub-Category: CERAMIC; Stock ID: ??; Local Supplier: GENERAL; Price 10K: 0.00250
footprint C0402 (Chip Capacitor, 2-Leads, Body 1.00x0.50mm, IPC Medium Density)
pins: 1, 2

## GRT155R61E225KE13D
designator C?, comment 2.2uF
2.2uF, 25V, X5R, 0402; Manufacturer: Murata; Manufacturer Part Number: GRT155R61E225KE13D; Value: 2200000; Tolerance: 10%; Dielectric Material: Ceramic; Purpose Of Usage: BASIC; Supplier 1: Digi-Key; RoHS: YES; Category: CAPASITOR; Mount: SMD; Case/Package: 0402; Case Code (Metric): 1005; Case Code (Imperial): 0402; Min Operating Temperature: -55°C; Max Operating Temperature: 85°C; Voltage Rating: 25V; Dielectric: X5R; Voltage Rating (DC): 25V; Supplier Part Number 1: 490-12267-1-ND; Sub-Category: CERAMIC; Stock ID: ??; Local Supplier: GENERAL; Price 10K: 0.00250
footprint C0402 (Chip Capacitor, 2-Leads, Body 1.00x0.50mm, IPC Medium Density)
pins: 1, 2

## LXRW0YV600-054
designator VC?, comment 30-60pF
Variable Capacitor 60pF 3.2V 4-Pin Surface Mount T/R; Manufacturer: Murata; Manufacturer Part Number: LXRW0YV600-054; Value: 30; Voltage Rating: 50V; Purpose Of Usage: BASIC; Supplier 1: Digi-Key; RoHS: YES; Category: Trimmer / Variable Capacitors; Supplier Part Number 1: 490-18379-2-ND; Case/Package: SMD/SMT; Case Code (Imperial): SMD; Max Operating Temperature: 85°C; Min Operating Temperature: -55°C; Mount: SMD; Stock ID: ??; Sub-Category: TRIMMER; Voltage Rating (DC): 3.2V; Local Supplier: GENERAL; Price 10K: 0.00250
footprint LXRW0YV600-054
pins: 1 GND, 2 ADJ, 3, 4

## T491B107K006AT
designator C?, comment 100uF
100uF, 6V, Tantalum ,Case B; Manufacturer: KEMET; Manufacturer Part Number: T491B107K006AT; Value: 100000000; Voltage Rating: 6.3V; Tolerance: 10%; Purpose Of Usage: BASIC; Supplier 1: Digi-Key; Supplier Part Number 1: 399-8301-1-ND; RoHS: YES; Mount: SMD; Case/Package: 1411; Dielectric Material: Tantalum; Case Code (Imperial): 1411; Case Code (Metric): 3528; Min Operating Temperature: -55°C; Max Operating Temperature: 125°C; Voltage Rating (DC): 6V; Height: 1.9mm; Category: CAPASITOR; Sub-Category: TANTALUM; Dielectric: Tantalum; Stock ID: ??; Local Supplier: GENERAL; Price 10K: 0.00250
footprint CT3528
pins: 1, 2

## UCM1C102MNL1GS
designator C?, comment 1000uF
1000uF, 16V, ELC, 10mm SMD; Manufacturer: Nichicon; Manufacturer Part Number: UCM1C102MNL1GS; Value: 1000000000; Tolerance: 20%; Dielectric: Polymer; Dielectric Material: Aluminium; Purpose Of Usage: BASIC; Supplier 1: Digi-Key; Supplier Part Number 1: 493-14526-1-ND; RoHS: YES; Mount: SMD; Case/Package: SMD/SMT; Min Operating Temperature: -55°C; Max Operating Temperature: 105°C; Voltage Rating: 16V; Voltage Rating (DC): 16V; Diameter: 10mm; Height: 10mm; Category: CAPASITOR; Sub-Category: ALUMINUM; Stock ID: ??; Case Code (Imperial): 10mm; Local Supplier: GENERAL; Price 10K: 0.00250
footprint 10mm Aliminyum Smd
pins: 1, 2

## UMK105CBJ105KV-F
designator C?, comment 1uF
1uF, 50V, X5R, 0402; Manufacturer: Taiyo Yuden; Manufacturer Part Number: UMK105CBJ105KV-F; Tolerance: 10%; Dielectric Material: Ceramic; Value: 1000000; Purpose Of Usage: BASIC; Supplier 1: Digi-Key; Category: CAPASITOR; Case/Package: 0402; Min Operating Temperature: -55°C; Max Operating Temperature: 85°C; Voltage Rating: 50V; Supplier Part Number 1: 587-UMK105CBJ105KV-FCT-ND; Case Code (Imperial): 0402; Case Code (Metric): 1005; Dielectric: X5R; Mount: SMD; RoHS: YES; Stock ID: ??; Sub-Category: CERAMIC; Local Supplier: GENERAL; Price 10K: 0.00250; Voltage Rating (DC): 50V
footprint C0402 (Chip Capacitor, 2-Leads, Body 1.00x0.50mm, IPC Medium Density)
pins: 1, 2

## UWX1C101MCL1GB
designator C?, comment 100UF
100uF, 16V, ELC, 6.3mm SMD; Manufacturer: Nichicon; Manufacturer Part Number: UWX1C101MCL1GB; Dielectric Material: Aluminium; Value: 100000000; Tolerance: 20%; Dielectric: Polymer; Purpose Of Usage: BASIC; Supplier 1: Digi-Key; Supplier Part Number 1: 493-2105-1-ND; RoHS: YES; Mount: SMD; Case/Package: Radial; Min Operating Temperature: -40°C; Max Operating Temperature: 85°C; Voltage Rating: 16V; Voltage Rating (DC): 16V; Diameter: 6.3mm; Height: 5.5mm; Category: CAPASITOR; Sub-Category: ALUMINUM; Stock ID: ??; Case Code (Imperial): 6.3 mm; Local Supplier: GENERAL; Price 10K: 0.00250
footprint 6mm Aliminyum Smd
pins: 1, 2